# Altium schematic symbol library MOSFET-P3.Schlib: 1 symbol
Pins are listed as number, name and electrical type; pins without a type are passive.

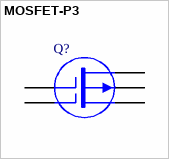
[diagram p0: symbol MOSFET-P3]

## MOSFET-P3
designator Q?
Two-Gate, P-Channel MOSFET, Externally Terminated Substrate
pins: 1 G1, 2 G2, 3 D, 4 U, 5 S